# Altium footprint library PBS-4R.PcbLib: 1 footprints
Each footprint in its own frame and in the unit in brackets; x right, y up, seen from the top. Pads: shape width x height; smd on the part's side, far side on the other; paste and mask are expansions set on the pad; w line width, h text height; cw(c..) or ccw(c..) is an arc to the next point about the centre after c.
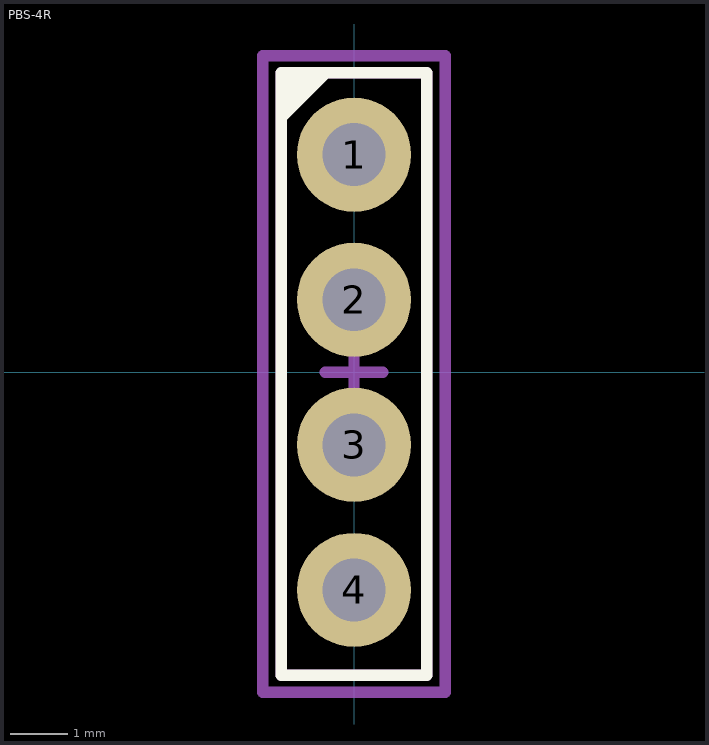
[diagram p0: the footprint, top view; thin cyan lines are the x and y axes]

## PBS-4R [mm] "2.54mm 4 pin male"
height 5
pads (4):
  round 2 hole 1.1: 1(0,3.81) 2(0,1.27) 3(0,-1.27) 4(0,-3.81)
Top Overlay:
  region: -1.23,5.27 -1.23,4.37 -0.33,5.27
  lines w0.2: -1.27,-5.3 -1.27,5.24 1.27,5.24 1.27,-5.3 -1.27,-5.3
Mechanical 9:
  lines w0.2: -0.5,0 0.5,0 ; 0,-0.5 0,0.5
Top Assembly:
  lines w0.2: -1.27,-5.3 -1.27,5.24 1.27,5.24 1.27,-5.3 -1.27,-5.3
Top Courtyard:
  lines w0.2: -1.6,-5.6 -1.6,5.54 1.6,5.54 1.6,-5.6 -1.6,-5.6
3D body "User Library-PBS4R.step": height 2.54, standoff -3.3, extent 0,-5.08 10.2,5.08